# Altium footprint library blue.PcbLib: 34 footprints (part 1 of 3)
Each footprint in its own frame and in the unit in brackets; x right, y up, seen from the top. Pads: shape width x height; smd on the part's side, far side on the other; paste and mask are expansions set on the pad; w line width, h text height; cw(c..) or ccw(c..) is an arc to the next point about the centre after c.
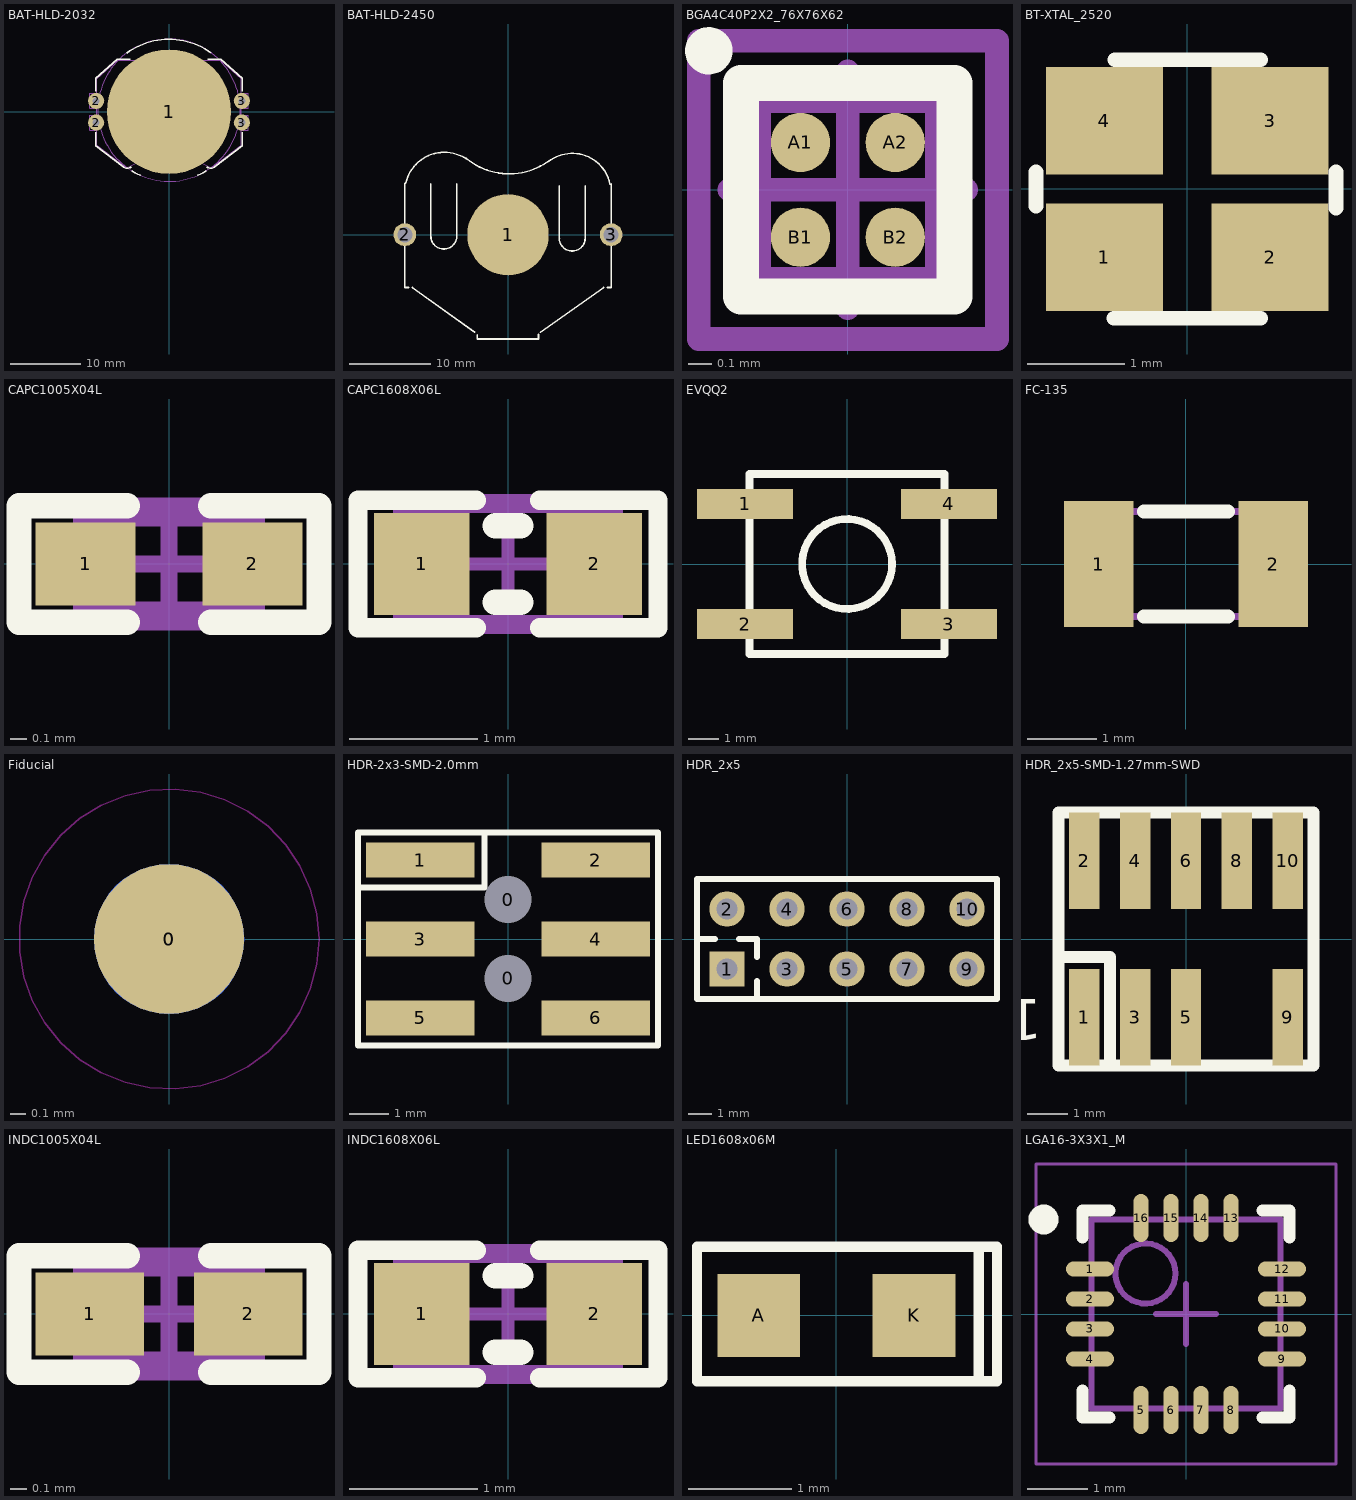
[diagram p0: the footprints below, top view; thin cyan lines are the x and y axes]

## BAT-HLD-2032 [mm] "LINX CR2032 BATTERY HOLDER"
height 4.3
pads (5):
  round 17.78 smd: 1(0,0)
  round 2.3 hole 1: 2(-10.4,-1.55) 2(-10.4,1.55) 3(10.4,-1.55) 3(10.4,1.55)
Top Overlay:
  lines w0.2: -10.466,-2.94 -10.466,-4.853 -6.545,-7.854 ; -10.466,2.94 -10.466,4.785 -7.425,7.475 -5.515,7.476 ; -6.545,-7.854 ccw(c-5.97,-7.277) -5.561,-7.982 cw(c0.254,-19.539) -5.394,-7.899 ; -6.041,8.364 cw(c0,0.19) 5.977,8.411 ; -5.313,-8.454 ccw(c0,0.215) -4.054,-9.109 ; 4.054,-9.109 ccw(c0,0.215) 5.313,-8.454 ; 5.394,-7.899 cw(c-0.254,-19.539) 5.561,-7.982 ccw(c5.97,-7.277) 6.545,-7.854 ; 5.515,7.476 7.425,7.475 10.466,4.785 10.466,2.94 ; 6.545,-7.854 10.466,-4.853 ; 10.466,-4.852 10.466,-2.94
Mechanical 1:
  circle w0.1: c0,0.215 r10.168
Mechanical 13:
  lines w0.1: -10.326,-2.625 -11.316,-2.625 -11.316,-0.525 -10.316,-0.525 ; -10.316,0.525 -11.316,0.525 -11.316,2.625 -10.316,2.625 ; -6.038,-8.055 cw(c-0.031,-19.513) 6.013,-8.074 ; -6.038,-8.056 -10.316,-4.775 -10.316,4.725 -7.366,7.325 7.366,7.325 10.316,4.725 10.316,-4.775 6.013,-8.075 ; 10.316,-0.525 11.316,-0.525 11.316,-2.625 10.326,-2.625 ; 10.316,0.525 11.316,0.525 11.316,2.625 10.316,2.625
Mechanical 15:
  lines w0.1: -0.5,0 0.5,0 ; 0,-0.5 0,0.5
3D body: height 4.3, standoff 0, extent -10.317,-8.075 10.317,7.326
3D body: height 4, standoff 0, extent -10.148,-9.872 10.148,10.383

## BAT-HLD-2450 [mm] "2450 BATTERY HOLDER"
height 8.89
pads (3):
  round 10 smd: 1(0,0)
  round 2.8 hole 1.85: 2(-12.7,0) 3(12.7,0)
Top Overlay:
  lines w0.1: -9.5,-0.18 -9.43,-0.25 ; 6.3,-0.43 6.37,-0.5
  lines w0.2: -12.7,6.35 -12.7,-6.5 -12.25,-6.5 ; -12.58,6.36 cw(c-7.821,5.263) -5,9.25 ; -11.75,-6.5 -4.082,-12.019 ; -9.5,-0.18 -9.5,6.25 ; -9.49,-0.18 ccw(c-7.9,-0.168) -6.31,-0.18 ; -6.3,-0.18 -6.3,6.25 ; -5.11,9.384 ccw(c0.153,15.794) 5.25,9.25 ; -3.785,-12.285 -3.785,-12.83 3.785,-12.83 ; 3.75,-12.83 3.75,-12.25 ; 4,-12 11.75,-6.5 ; 5,9 cw(c7.928,5.307) 12.546,6.25 ; 6.3,-0.43 6.3,6 ; 6.31,-0.43 ccw(c7.9,-0.418) 9.49,-0.43 ; 9.5,-0.43 9.5,6 ; 12.25,-6.5 12.7,-6.5 12.7,6.25

## BGA4C40P2X2_76X76X62 [mm]
pads (4):
  round 0.25 smd: A1(-0.2,0.2) A2(0.2,0.2) B1(-0.2,-0.2) B2(0.2,-0.2)
Top Overlay:
  circle w0.1: c-0.587,0.587 r0.05
  lines w0.152: -0.451,-0.451 0.451,-0.451 0.451,0.451 -0.451,0.451 -0.451,-0.451
Mechanical 13:
  lines w0.1: -0.375,-0.375 -0.375,0.375 0.375,0.375 0.375,-0.375 -0.375,-0.375
Mechanical 15:
  lines w0.1: -0.5,0 0.5,0 ; 0,-0.5 0,0.5 ; -0.63,-0.63 -0.63,0.63 0.63,0.63 0.63,-0.63 -0.63,-0.63
3D body: height 0.63, standoff 0.12, extent -0.375,-0.375 0.375,0.375

## BT-XTAL_2520 [mm]
pads (4):
  rect 1.2x1.1 smd: 1(-0.85,-0.7) 2(0.85,-0.7) 3(0.85,0.7) 4(-0.85,0.7)
Top Overlay:
  lines w0.152: -1.55,-0.175 -1.55,0.175 ; -0.75,-1.325 0.75,-1.325 ; -0.74,1.325 0.75,1.325 ; 1.525,-0.195 1.525,0.175
3D body: height 0.56, standoff 0, extent -1.25,-1 1.27,1
3D body: height 0.56, standoff 0.15, extent -1.05,-0.8 1.05,0.8

## CAPC1005X04L [mm]
pads (2):
  rect 0.6x0.5 smd: 1(-0.5,0) 2(0.5,0)
Top Overlay:
  lines w0.152: -0.25,-0.35 -0.9,-0.35 -0.9,0.35 -0.25,0.35 ; 0.25,-0.35 0.9,-0.35 0.9,0.35 0.25,0.35
Mechanical 13:
  lines w0.1: -0.525,-0.275 -0.525,0.275 0.525,0.275 0.525,-0.275 -0.525,-0.275
Mechanical 15:
  lines w0.1: -0.275,0 0.275,0 ; 0,-0.275 0,0.275 ; -0.9,-0.35 0.9,-0.35 0.9,0.35 -0.9,0.35 -0.9,-0.35
3D body: height 0.5, standoff -0.01, extent -0.508,-0.254 0.508,0.254

## CAPC1608X06L [mm]
pads (2):
  rect 0.75x0.8 smd: 1(-0.675,0) 2(0.675,0)
Top Overlay:
  lines w0.152: -0.25,-0.5 -1.175,-0.5 -1.175,0.5 -0.25,0.5 ; 0.25,-0.5 1.175,-0.5 1.175,0.5 0.25,0.5
  lines w0.2: -0.1,-0.3 0.1,-0.3 ; -0.1,0.3 0.1,0.3
Mechanical 13:
  lines w0.1: -0.85,-0.45 0.85,-0.45 0.85,0.45 -0.85,0.45 -0.85,-0.45
Mechanical 15:
  lines w0.1: -0.45,0 0.45,0 ; 0,-0.45 0,0.45 ; -1.175,-0.5 -1.175,0.5 1.175,0.5 1.175,-0.5 -1.175,-0.5
3D body: height 0.8, standoff 0, extent -0.8,-0.43 0.8,0.43

## EVQQ2 [mm] "Panasonic EVQQ2 SW Button"
pads (4):
  rect 3.2x1 smd: 1(-3.4,2) 2(-3.4,-2) 3(3.4,-2) 4(3.4,2)
Top Overlay:
  circle w0.254: c0,0 r1.5
  lines w0.254: -3.25,-3 3.25,-3 3.25,3 -3.25,3 -3.25,-3
3D body: height 0, standoff 0, extent 1.25,-1.5 1.25,-1.5
3D body: height 0, standoff 0, extent 2.6,-2.6 2.6,-2.6
3D body: height 0, standoff 0, extent -2.6,-2.6 -2.6,-2.6
3D body: height 0, standoff 0, extent -2.6,-2.6 -2.6,-2.6
3D body: height 0, standoff 0, extent -2.6,0 -2.6,0
3D body: height 0, standoff 0, extent -2.6,-2.6 -2.6,-2.6
3D body: height 0, standoff 0, extent -2.6,0 -2.6,0
3D body: height 0, standoff 0, extent -2.6,0 -2.6,0
3D body: height 0, standoff 0, extent -2.6,0 -2.6,0
3D body: height 0, standoff 0, extent 0,0 0,0
3D body: height 0, standoff 0, extent 0,0 0,0
3D body: height 0, standoff 0, extent 0,-5.2 0,-5.2
3D body: height 0, standoff 0, extent 0,-5.2 0,-5.2
3D body: height 0, standoff 0, extent -2.6,-5.2 -2.6,-5.2
3D body: height 0, standoff 0, extent -2.6,-2.6 -2.6,-2.6
3D body: height 0, standoff 0, extent -2.6,-2.6 -2.6,-2.6
3D body: height 0, standoff 0, extent -2.6,0 -2.6,0
3D body: height 0, standoff 0, extent -2.6,-2.6 -2.6,-2.6
3D body: height 0, standoff 0, extent 2.5,-4.5 2.5,-4.5
3D body: height 0, standoff 0, extent 2.5,-4.5 2.5,-4.5
3D body: height 0, standoff 0, extent 0.2,2.3 0.2,2.3
3D body: height 0, standoff 0, extent -1.3,-1.3 -1.3,-1.3

## FC-135 [mm]
pads (2):
  rect 1x1.8 smd: 1(-1.25,0) 2(1.25,0)
Top Overlay:
  lines w0.2: -0.6,-0.75 0.6,-0.75 ; -0.6,0.75 0.6,0.75
Mechanical 3:
  lines w0.1: -1.6,-0.55 cw(c-1.6,-0.75) -1.4,-0.75 1.4,-0.75 cw(c1.6,-0.75) 1.6,-0.55 1.6,0.55 cw(c1.6,0.75) 1.4,0.75 -1.4,0.75 cw(c-1.6,0.75) -1.6,0.55 -1.6,-0.55
3D body: height 0.81, standoff 0, extent -1.6,-0.75 1.6,0.75
3D body: height 0.81, standoff 0.15, extent -1.2,-0.6 1.2,0.6

## Fiducial [mm]
pads (2):
  round 1 smd paste-10 mask+0.5: 0(0,0)
  round 1 smd far side paste-10 mask+0.5: 0(0,0)
Keep-Out Layer:
  circle w0.01: c0,0 r1

## HDR-2x3-SMD-2.0mm [mm]
pads (8):
  round 1 hole 1.2: 0(0,-1) 0(0,1)
  rect 2.75x0.89 smd: 1(-2.225,2) 2(2.225,2) 3(-2.225,0) 4(2.225,0) 5(-2.225,-2) 6(2.225,-2)
Top Overlay:
  lines w0.152: -0.6,2.7 -0.6,1.3 -3.8,1.3 ; -3.8,1.3 -3.8,-2.7 3.8,-2.7 3.8,2.7 0,2.7 -3.8,2.7 -3.8,1.3
3D body: height 6.5, standoff 0, extent -3.25,-2.975 3.25,2.975

## HDR_2x5 [mm]
pads (10):
  rect 1.5x1.5 hole 0.9: 1(-5.08,-1.27)
  round 1.5 hole 0.9: 2(-5.08,1.27) 3(-2.54,-1.27) 4(-2.54,1.27) 5(0,-1.27) 6(0,1.27) 7(2.54,-1.27) 8(2.54,1.27) 9(5.08,-1.27) 10(5.08,1.27)
Top Overlay:
  lines w0.254: -6.35,0 -5.588,0 ; -4.572,0 -3.81,0 -3.81,-0.762 ; -3.81,-2.54 -3.81,-1.778 ; -6.35,-2.54 -6.35,2.54 6.35,2.54 6.35,-2.54 -6.35,-2.54

## HDR_2x5-SMD-1.27mm-SWD [mm]
pads (9):
  rect 0.76x2.4 smd: 1(-2.54,-1.95) 2(-2.54,1.95) 3(-1.27,-1.95) 4(-1.27,1.95) 5(0,-1.95) 6(0,1.95) 8(1.27,1.95) 9(2.54,-1.95) 10(2.54,1.95)
Top Overlay:
  lines w0.3: -3.175,-0.45 -1.9,-0.45 -1.9,-3.15 ; -3.175,-3.15 3.175,-3.15 3.175,3.15 -3.175,3.15 -3.175,-3.15
  text "1" at -3.581,-1.499 h1.02
3D body: height 4.33, standoff 0.01, extent -3.165,-2.921 3.185,2.921

## INDC1005X04L [mm]
pads (2):
  rect 0.65x0.5 smd: 1(-0.475,0) 2(0.475,0)
Top Overlay:
  lines w0.152: -0.25,-0.35 -0.9,-0.35 -0.9,0.35 -0.25,0.35 ; 0.25,-0.35 0.9,-0.35 0.9,0.35 0.25,0.35
Mechanical 13:
  lines w0.1: -0.525,-0.275 0.525,-0.275 0.525,0.275 -0.525,0.275 -0.525,-0.275
Mechanical 15:
  lines w0.1: -0.275,0 0.275,0 ; 0,-0.275 0,0.275 ; -0.9,-0.35 0.9,-0.35 0.9,0.35 -0.9,0.35 -0.9,-0.35
3D body: height 0.5, standoff 0, extent -0.5,-0.3 0.5,0.3

## INDC1608X06L [mm]
pads (2):
  rect 0.75x0.8 smd: 1(-0.675,0) 2(0.675,0)
Top Overlay:
  lines w0.152: -0.25,-0.5 -1.175,-0.5 -1.175,0.5 -0.25,0.5 ; 0.25,-0.5 1.175,-0.5 1.175,0.5 0.25,0.5
  lines w0.2: -0.1,-0.3 0.1,-0.3 ; -0.1,0.3 0.1,0.3
Mechanical 13:
  lines w0.1: -0.85,-0.45 -0.85,0.45 0.85,0.45 0.85,-0.45 -0.85,-0.45
Mechanical 15:
  lines w0.1: -0.45,0 0.45,0 ; 0,-0.45 0,0.45 ; -1.175,-0.5 1.175,-0.5 1.175,0.5 -1.175,0.5 -1.175,-0.5
3D body: height 0.8, standoff 0, extent -0.8,-0.475 0.8,0.475

## LED1608x06M [mm]
pads (2):
  rect 0.8x0.8 smd: A(-0.75,0) K(0.75,0)
Top Overlay:
  lines w0.1: 1.372,-0.635 1.372,0.66 ; -1.346,-0.635 -1.346,0.66 1.549,0.66 1.549,-0.635 -1.346,-0.635
3D body: height 0.58, standoff -0.08, extent -0.801,-0.4 0.8,0.4

## LGA16-3X3X1_M [mm] "PQFN, 16-Leads, Body 3x3mm, Pitch 0.5mm, IPC Low Density"
height 1
pads (16):
  oval 0.8x0.25 smd: 1(-1.6,0.75) 2(-1.6,0.25) 3(-1.6,-0.25) 4(-1.6,-0.75) 9(1.6,-0.75) 10(1.6,-0.25) 11(1.6,0.25) 12(1.6,0.75)
  oval 0.25x0.8 smd: 5(-0.75,-1.6) 6(-0.25,-1.6) 7(0.25,-1.6) 8(0.75,-1.6) 13(0.75,1.6) 14(0.25,1.6) 15(-0.25,1.6) 16(-0.75,1.6)
Top Overlay:
  circle w0.25: c-2.375,1.575 r0.125
  lines w0.2: -1.725,-1.275 -1.725,-1.725 -1.275,-1.725 ; -1.725,1.275 -1.725,1.725 -1.275,1.725 ; 1.275,-1.725 1.725,-1.725 1.725,-1.275 ; 1.275,1.725 1.725,1.725 1.725,1.275
Mechanical 13:
  circle w0.1: c-0.675,0.675 r0.5
  lines w0.1: -1.575,-1.575 -1.575,1.575 1.575,1.575 1.575,-1.575 -1.575,-1.575
Mechanical 15:
  lines w0.05: -2.5,-2.5 -2.5,2.5 2.5,2.5 2.5,-2.5 -2.5,-2.5
  lines w0.1: -0.5,0 0.5,0 ; 0,-0.5 0,0.5
3D body: height 1, standoff 0, extent -1.575,-1.575 1.575,1.575